# Altium footprint library QFP - Rectangle.PcbLib: 16 footprints
Each footprint in its own frame and in the unit in brackets; x right, y up, seen from the top. Pads: shape width x height; smd on the part's side, far side on the other; paste and mask are expansions set on the pad; w line width, h text height; cw(c..) or ccw(c..) is an arc to the next point about the centre after c.
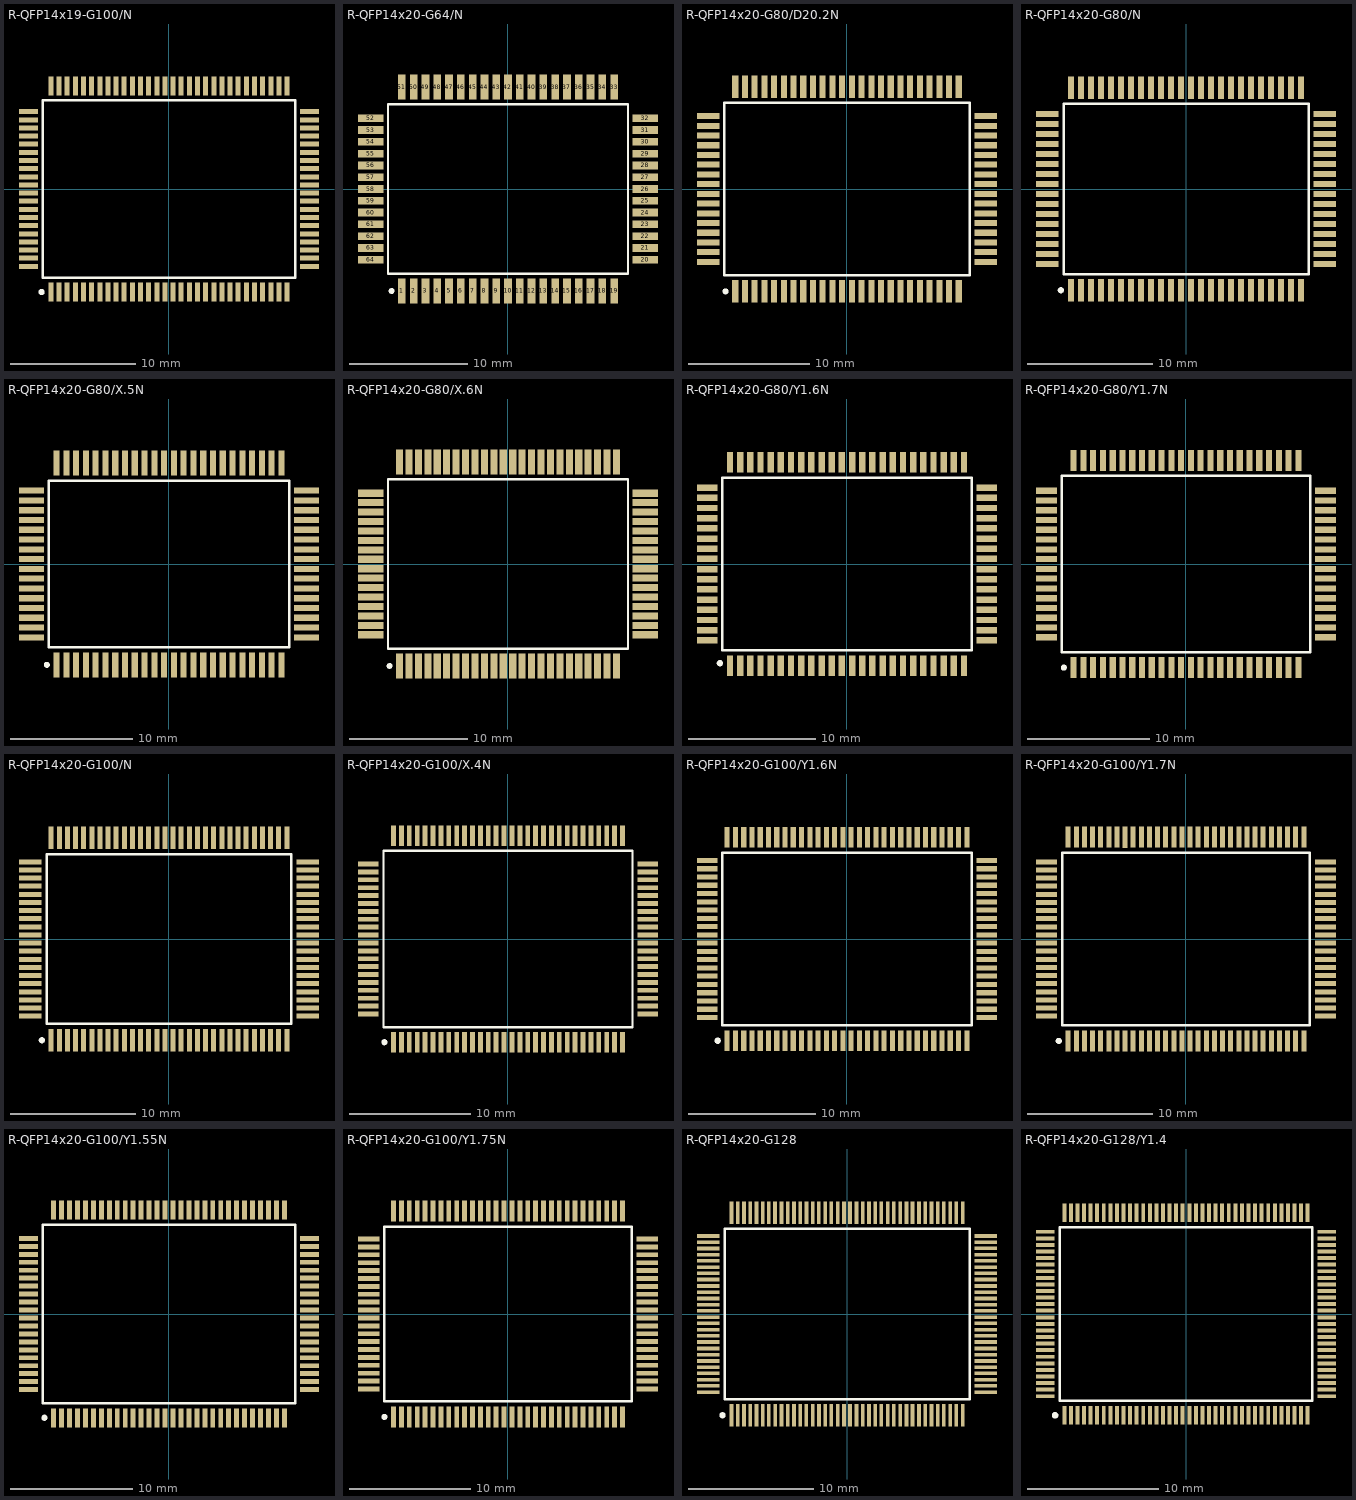
[diagram p0: the footprints below, top view; thin cyan lines are the x and y axes]

## R-QFP14x19-G100/N [mm] "100-Pin Ceramic Quad Flat Pack (CFQP)"
height 3.22
pads (100):
  rect 0.4x1.5 smd: 1(-9.425,-8.225) 2(-8.775,-8.225) 3(-8.125,-8.225) 4(-7.475,-8.225) 5(-6.825,-8.225) 6(-6.175,-8.225) 7(-5.525,-8.225) 8(-4.875,-8.225) 9(-4.225,-8.225) 10(-3.575,-8.225) 11(-2.925,-8.225) 12(-2.275,-8.225) 13(-1.625,-8.225) 14(-0.975,-8.225) 15(-0.325,-8.225) 16(0.325,-8.225) 17(0.975,-8.225) 18(1.625,-8.225) 19(2.275,-8.225) 20(2.925,-8.225) 21(3.575,-8.225) 22(4.225,-8.225) 23(4.875,-8.225) 24(5.525,-8.225) 25(6.175,-8.225) 26(6.825,-8.225) 27(7.475,-8.225) 28(8.125,-8.225) 29(8.775,-8.225) 30(9.425,-8.225) 51(9.425,8.225) 52(8.775,8.225) 53(8.125,8.225) 54(7.475,8.225) 55(6.825,8.225) 56(6.175,8.225) 57(5.525,8.225) 58(4.875,8.225) 59(4.225,8.225) 60(3.575,8.225) 61(2.925,8.225) 62(2.275,8.225) 63(1.625,8.225) 64(0.975,8.225) 65(0.325,8.225) 66(-0.325,8.225) 67(-0.975,8.225) 68(-1.625,8.225) 69(-2.275,8.225) 70(-2.925,8.225) 71(-3.575,8.225) 72(-4.225,8.225) 73(-4.875,8.225) 74(-5.525,8.225) 75(-6.175,8.225) 76(-6.825,8.225) 77(-7.475,8.225) 78(-8.125,8.225) 79(-8.775,8.225) 80(-9.425,8.225)
  rect 1.5x0.4 smd: 31(11.225,-6.175) 32(11.225,-5.525) 33(11.225,-4.875) 34(11.225,-4.225) 35(11.225,-3.575) 36(11.225,-2.925) 37(11.225,-2.275) 38(11.225,-1.625) 39(11.225,-0.975) 40(11.225,-0.325) 41(11.225,0.325) 42(11.225,0.975) 43(11.225,1.625) 44(11.225,2.275) 45(11.225,2.925) 46(11.225,3.575) 47(11.225,4.225) 48(11.225,4.875) 49(11.225,5.525) 50(11.225,6.175) 81(-11.225,6.175) 82(-11.225,5.525) 83(-11.225,4.875) 84(-11.225,4.225) 85(-11.225,3.575) 86(-11.225,2.925) 87(-11.225,2.275) 88(-11.225,1.625) 89(-11.225,0.975) 90(-11.225,0.325) 91(-11.225,-0.325) 92(-11.225,-0.975) 93(-11.225,-1.625) 94(-11.225,-2.275) 95(-11.225,-2.925) 96(-11.225,-3.575) 97(-11.225,-4.225) 98(-11.225,-4.875) 99(-11.225,-5.525) 100(-11.225,-6.175)
Top Overlay:
  circle w0.25: c-10.175,-8.225 r0.125
  lines w0.2: -10.075,-7.075 10.075,-7.075 10.075,7.075 -10.075,7.075 -10.075,-7.075

## R-QFP14x20-G64/N [mm] "QFP; 64 Leads; Body 14 x 20 mm; Pitch 1 mm"
height 2.3
pads (64):
  rect 0.65x2.15 smd: 1(-9,-8.65) 2(-8,-8.65) 3(-7,-8.65) 4(-6,-8.65) 5(-5,-8.65) 6(-4,-8.65) 7(-3,-8.65) 8(-2,-8.65) 9(-1,-8.65) 10(0,-8.65) 11(1,-8.65) 12(2,-8.65) 13(3,-8.65) 14(4,-8.65) 15(5,-8.65) 16(6,-8.65) 17(7,-8.65) 18(8,-8.65) 19(9,-8.65) 33(9,8.65) 34(8,8.65) 35(7,8.65) 36(6,8.65) 37(5,8.65) 38(4,8.65) 39(3,8.65) 40(2,8.65) 41(1,8.65) 42(0,8.65) 43(-1,8.65) 44(-2,8.65) 45(-3,8.65) 46(-4,8.65) 47(-5,8.65) 48(-6,8.65) 49(-7,8.65) 50(-8,8.65) 51(-9,8.65)
  rect 2.15x0.65 smd: 20(11.65,-6) 21(11.65,-5) 22(11.65,-4) 23(11.65,-3) 24(11.65,-2) 25(11.65,-1) 26(11.65,0) 27(11.65,1) 28(11.65,2) 29(11.65,3) 30(11.65,4) 31(11.65,5) 32(11.65,6) 52(-11.65,6) 53(-11.65,5) 54(-11.65,4) 55(-11.65,3) 56(-11.65,2) 57(-11.65,1) 58(-11.65,0) 59(-11.65,-1) 60(-11.65,-2) 61(-11.65,-3) 62(-11.65,-4) 63(-11.65,-5) 64(-11.65,-6)
Top Overlay:
  circle w0.25: c-9.875,-8.65 r0.125
  lines w0.2: -10.175,-7.175 -10.175,7.175 10.175,7.175 10.175,-7.175 -10.175,-7.175

## R-QFP14x20-G80/D20.2N [mm] "QFP; 80 Leads; Body 14 x 20 mm; Pitch 0.8 mm"
height 3.05
pads (80):
  rect 0.5x1.85 smd: 1(-9.2,-8.425) 2(-8.4,-8.425) 3(-7.6,-8.425) 4(-6.8,-8.425) 5(-6,-8.425) 6(-5.2,-8.425) 7(-4.4,-8.425) 8(-3.6,-8.425) 9(-2.8,-8.425) 10(-2,-8.425) 11(-1.2,-8.425) 12(-0.4,-8.425) 13(0.4,-8.425) 14(1.2,-8.425) 15(2,-8.425) 16(2.8,-8.425) 17(3.6,-8.425) 18(4.4,-8.425) 19(5.2,-8.425) 20(6,-8.425) 21(6.8,-8.425) 22(7.6,-8.425) 23(8.4,-8.425) 24(9.2,-8.425) 41(9.2,8.425) 42(8.4,8.425) 43(7.6,8.425) 44(6.8,8.425) 45(6,8.425) 46(5.2,8.425) 47(4.4,8.425) 48(3.6,8.425) 49(2.8,8.425) 50(2,8.425) 51(1.2,8.425) 52(0.4,8.425) 53(-0.4,8.425) 54(-1.2,8.425) 55(-2,8.425) 56(-2.8,8.425) 57(-3.6,8.425) 58(-4.4,8.425) 59(-5.2,8.425) 60(-6,8.425) 61(-6.8,8.425) 62(-7.6,8.425) 63(-8.4,8.425) 64(-9.2,8.425)
  rect 1.85x0.5 smd: 25(11.425,-6) 26(11.425,-5.2) 27(11.425,-4.4) 28(11.425,-3.6) 29(11.425,-2.8) 30(11.425,-2) 31(11.425,-1.2) 32(11.425,-0.4) 33(11.425,0.4) 34(11.425,1.2) 35(11.425,2) 36(11.425,2.8) 37(11.425,3.6) 38(11.425,4.4) 39(11.425,5.2) 40(11.425,6) 65(-11.425,6) 66(-11.425,5.2) 67(-11.425,4.4) 68(-11.425,3.6) 69(-11.425,2.8) 70(-11.425,2) 71(-11.425,1.2) 72(-11.425,0.4) 73(-11.425,-0.4) 74(-11.425,-1.2) 75(-11.425,-2) 76(-11.425,-2.8) 77(-11.425,-3.6) 78(-11.425,-4.4) 79(-11.425,-5.2) 80(-11.425,-6)
Top Overlay:
  circle w0.25: c-10,-8.425 r0.125
  lines w0.2: -10.1,-7.1 -10.1,7.1 10.1,7.1 10.1,-7.1 -10.1,-7.1

## R-QFP14x20-G80/N [mm] "QFP; 80 Leads; Body 14 x 20 mm; Pitch 0.8 mm"
height 2.45
pads (80):
  rect 0.5x1.8 smd: 1(-9.2,-8.1) 2(-8.4,-8.1) 3(-7.6,-8.1) 4(-6.8,-8.1) 5(-6,-8.1) 6(-5.2,-8.1) 7(-4.4,-8.1) 8(-3.6,-8.1) 9(-2.8,-8.1) 10(-2,-8.1) 11(-1.2,-8.1) 12(-0.4,-8.1) 13(0.4,-8.1) 14(1.2,-8.1) 15(2,-8.1) 16(2.8,-8.1) 17(3.6,-8.1) 18(4.4,-8.1) 19(5.2,-8.1) 20(6,-8.1) 21(6.8,-8.1) 22(7.6,-8.1) 23(8.4,-8.1) 24(9.2,-8.1) 41(9.2,8.1) 42(8.4,8.1) 43(7.6,8.1) 44(6.8,8.1) 45(6,8.1) 46(5.2,8.1) 47(4.4,8.1) 48(3.6,8.1) 49(2.8,8.1) 50(2,8.1) 51(1.2,8.1) 52(0.4,8.1) 53(-0.4,8.1) 54(-1.2,8.1) 55(-2,8.1) 56(-2.8,8.1) 57(-3.6,8.1) 58(-4.4,8.1) 59(-5.2,8.1) 60(-6,8.1) 61(-6.8,8.1) 62(-7.6,8.1) 63(-8.4,8.1) 64(-9.2,8.1)
  rect 1.8x0.5 smd: 25(11.1,-6) 26(11.1,-5.2) 27(11.1,-4.4) 28(11.1,-3.6) 29(11.1,-2.8) 30(11.1,-2) 31(11.1,-1.2) 32(11.1,-0.4) 33(11.1,0.4) 34(11.1,1.2) 35(11.1,2) 36(11.1,2.8) 37(11.1,3.6) 38(11.1,4.4) 39(11.1,5.2) 40(11.1,6) 65(-11.1,6) 66(-11.1,5.2) 67(-11.1,4.4) 68(-11.1,3.6) 69(-11.1,2.8) 70(-11.1,2) 71(-11.1,1.2) 72(-11.1,0.4) 73(-11.1,-0.4) 74(-11.1,-1.2) 75(-11.1,-2) 76(-11.1,-2.8) 77(-11.1,-3.6) 78(-11.1,-4.4) 79(-11.1,-5.2) 80(-11.1,-6)
Top Overlay:
  circle w0.25: c-10.012,-8.1 r0.125
  lines w0.2: -9.8,-6.8 -9.8,6.8 9.8,6.8 9.8,-6.8 -9.8,-6.8

## R-QFP14x20-G80/X.5N [mm] "QFP; 80 Leads; Body 14 x 20 mm; Pitch 0.8 mm"
height 3.15
pads (80):
  rect 0.5x2.05 smd: 1(-9.2,-8.25) 2(-8.4,-8.25) 3(-7.6,-8.25) 4(-6.8,-8.25) 5(-6,-8.25) 6(-5.2,-8.25) 7(-4.4,-8.25) 8(-3.6,-8.25) 9(-2.8,-8.25) 10(-2,-8.25) 11(-1.2,-8.25) 12(-0.4,-8.25) 13(0.4,-8.25) 14(1.2,-8.25) 15(2,-8.25) 16(2.8,-8.25) 17(3.6,-8.25) 18(4.4,-8.25) 19(5.2,-8.25) 20(6,-8.25) 21(6.8,-8.25) 22(7.6,-8.25) 23(8.4,-8.25) 24(9.2,-8.25) 41(9.2,8.25) 42(8.4,8.25) 43(7.6,8.25) 44(6.8,8.25) 45(6,8.25) 46(5.2,8.25) 47(4.4,8.25) 48(3.6,8.25) 49(2.8,8.25) 50(2,8.25) 51(1.2,8.25) 52(0.4,8.25) 53(-0.4,8.25) 54(-1.2,8.25) 55(-2,8.25) 56(-2.8,8.25) 57(-3.6,8.25) 58(-4.4,8.25) 59(-5.2,8.25) 60(-6,8.25) 61(-6.8,8.25) 62(-7.6,8.25) 63(-8.4,8.25) 64(-9.2,8.25)
  rect 2.05x0.5 smd: 25(11.25,-6) 26(11.25,-5.2) 27(11.25,-4.4) 28(11.25,-3.6) 29(11.25,-2.8) 30(11.25,-2) 31(11.25,-1.2) 32(11.25,-0.4) 33(11.25,0.4) 34(11.25,1.2) 35(11.25,2) 36(11.25,2.8) 37(11.25,3.6) 38(11.25,4.4) 39(11.25,5.2) 40(11.25,6) 65(-11.25,6) 66(-11.25,5.2) 67(-11.25,4.4) 68(-11.25,3.6) 69(-11.25,2.8) 70(-11.25,2) 71(-11.25,1.2) 72(-11.25,0.4) 73(-11.25,-0.4) 74(-11.25,-1.2) 75(-11.25,-2) 76(-11.25,-2.8) 77(-11.25,-3.6) 78(-11.25,-4.4) 79(-11.25,-5.2) 80(-11.25,-6)
Top Overlay:
  circle w0.25: c-10,-8.25 r0.125
  lines w0.2: -9.825,-6.825 9.825,-6.825 9.825,6.825 -9.825,6.825 -9.825,-6.825

## R-QFP14x20-G80/X.6N [mm] "QFP; 80 Leads; Body 14 x 20 mm; Pitch 0.8 mm"
height 2.3
pads (80):
  rect 0.6x2.15 smd: 1(-9.2,-8.65) 2(-8.4,-8.65) 3(-7.6,-8.65) 4(-6.8,-8.65) 5(-6,-8.65) 6(-5.2,-8.65) 7(-4.4,-8.65) 8(-3.6,-8.65) 9(-2.8,-8.65) 10(-2,-8.65) 11(-1.2,-8.65) 12(-0.4,-8.65) 13(0.4,-8.65) 14(1.2,-8.65) 15(2,-8.65) 16(2.8,-8.65) 17(3.6,-8.65) 18(4.4,-8.65) 19(5.2,-8.65) 20(6,-8.65) 21(6.8,-8.65) 22(7.6,-8.65) 23(8.4,-8.65) 24(9.2,-8.65) 41(9.2,8.65) 42(8.4,8.65) 43(7.6,8.65) 44(6.8,8.65) 45(6,8.65) 46(5.2,8.65) 47(4.4,8.65) 48(3.6,8.65) 49(2.8,8.65) 50(2,8.65) 51(1.2,8.65) 52(0.4,8.65) 53(-0.4,8.65) 54(-1.2,8.65) 55(-2,8.65) 56(-2.8,8.65) 57(-3.6,8.65) 58(-4.4,8.65) 59(-5.2,8.65) 60(-6,8.65) 61(-6.8,8.65) 62(-7.6,8.65) 63(-8.4,8.65) 64(-9.2,8.65)
  rect 2.15x0.6 smd: 25(11.65,-6) 26(11.65,-5.2) 27(11.65,-4.4) 28(11.65,-3.6) 29(11.65,-2.8) 30(11.65,-2) 31(11.65,-1.2) 32(11.65,-0.4) 33(11.65,0.4) 34(11.65,1.2) 35(11.65,2) 36(11.65,2.8) 37(11.65,3.6) 38(11.65,4.4) 39(11.65,5.2) 40(11.65,6) 65(-11.65,6) 66(-11.65,5.2) 67(-11.65,4.4) 68(-11.65,3.6) 69(-11.65,2.8) 70(-11.65,2) 71(-11.65,1.2) 72(-11.65,0.4) 73(-11.65,-0.4) 74(-11.65,-1.2) 75(-11.65,-2) 76(-11.65,-2.8) 77(-11.65,-3.6) 78(-11.65,-4.4) 79(-11.65,-5.2) 80(-11.65,-6)
Top Overlay:
  circle w0.25: c-10.05,-8.65 r0.125
  lines w0.2: -10.175,-7.175 -10.175,7.175 10.175,7.175 10.175,-7.175 -10.175,-7.175

## R-QFP14x20-G80/Y1.6N [mm] "QFP; 80 Leads; Body 14 x 20 mm; Pitch 0.8 mm"
height 3.05
pads (80):
  rect 0.5x1.6 smd: 1(-9.2,-8) 2(-8.4,-8) 3(-7.6,-8) 4(-6.8,-8) 5(-6,-8) 6(-5.2,-8) 7(-4.4,-8) 8(-3.6,-8) 9(-2.8,-8) 10(-2,-8) 11(-1.2,-8) 12(-0.4,-8) 13(0.4,-8) 14(1.2,-8) 15(2,-8) 16(2.8,-8) 17(3.6,-8) 18(4.4,-8) 19(5.2,-8) 20(6,-8) 21(6.8,-8) 22(7.6,-8) 23(8.4,-8) 24(9.2,-8) 41(9.2,8) 42(8.4,8) 43(7.6,8) 44(6.8,8) 45(6,8) 46(5.2,8) 47(4.4,8) 48(3.6,8) 49(2.8,8) 50(2,8) 51(1.2,8) 52(0.4,8) 53(-0.4,8) 54(-1.2,8) 55(-2,8) 56(-2.8,8) 57(-3.6,8) 58(-4.4,8) 59(-5.2,8) 60(-6,8) 61(-6.8,8) 62(-7.6,8) 63(-8.4,8) 64(-9.2,8)
  rect 1.6x0.5 smd: 25(11,-6) 26(11,-5.2) 27(11,-4.4) 28(11,-3.6) 29(11,-2.8) 30(11,-2) 31(11,-1.2) 32(11,-0.4) 33(11,0.4) 34(11,1.2) 35(11,2) 36(11,2.8) 37(11,3.6) 38(11,4.4) 39(11,5.2) 40(11,6) 65(-11,6) 66(-11,5.2) 67(-11,4.4) 68(-11,3.6) 69(-11,2.8) 70(-11,2) 71(-11,1.2) 72(-11,0.4) 73(-11,-0.4) 74(-11,-1.2) 75(-11,-2) 76(-11,-2.8) 77(-11,-3.6) 78(-11,-4.4) 79(-11,-5.2) 80(-11,-6)
Top Overlay:
  circle w0.25: c-10,-7.8 r0.125
  lines w0.2: -9.8,-6.8 9.8,-6.8 9.8,6.8 -9.8,6.8 -9.8,-6.8

## R-QFP14x20-G80/Y1.7N [mm] "QFP; 80 Leads; Body 14 x 20 mm; Pitch 0.8 mm"
height 3.25
pads (80):
  rect 0.5x1.7 smd: 1(-9.2,-8.48) 2(-8.4,-8.48) 3(-7.6,-8.48) 4(-6.8,-8.48) 5(-6,-8.48) 6(-5.2,-8.48) 7(-4.4,-8.48) 8(-3.6,-8.48) 9(-2.8,-8.48) 10(-2,-8.48) 11(-1.2,-8.48) 12(-0.4,-8.48) 13(0.4,-8.48) 14(1.2,-8.48) 15(2,-8.48) 16(2.8,-8.48) 17(3.6,-8.48) 18(4.4,-8.48) 19(5.2,-8.48) 20(6,-8.48) 21(6.8,-8.48) 22(7.6,-8.48) 23(8.4,-8.48) 24(9.2,-8.48) 41(9.2,8.48) 42(8.4,8.48) 43(7.6,8.48) 44(6.8,8.48) 45(6,8.48) 46(5.2,8.48) 47(4.4,8.48) 48(3.6,8.48) 49(2.8,8.48) 50(2,8.48) 51(1.2,8.48) 52(0.4,8.48) 53(-0.4,8.48) 54(-1.2,8.48) 55(-2,8.48) 56(-2.8,8.48) 57(-3.6,8.48) 58(-4.4,8.48) 59(-5.2,8.48) 60(-6,8.48) 61(-6.8,8.48) 62(-7.6,8.48) 63(-8.4,8.48) 64(-9.2,8.48)
  rect 1.7x0.5 smd: 25(11.43,-6) 26(11.43,-5.2) 27(11.43,-4.4) 28(11.43,-3.6) 29(11.43,-2.8) 30(11.43,-2) 31(11.43,-1.2) 32(11.43,-0.4) 33(11.43,0.4) 34(11.43,1.2) 35(11.43,2) 36(11.43,2.8) 37(11.43,3.6) 38(11.43,4.4) 39(11.43,5.2) 40(11.43,6) 65(-11.43,6) 66(-11.43,5.2) 67(-11.43,4.4) 68(-11.43,3.6) 69(-11.43,2.8) 70(-11.43,2) 71(-11.43,1.2) 72(-11.43,0.4) 73(-11.43,-0.4) 74(-11.43,-1.2) 75(-11.43,-2) 76(-11.43,-2.8) 77(-11.43,-3.6) 78(-11.43,-4.4) 79(-11.43,-5.2) 80(-11.43,-6)
Top Overlay:
  circle w0.25: c-10,-8.48 r0.125
  lines w0.2: -10.175,-7.225 10.175,-7.225 10.175,7.225 -10.175,7.225 -10.175,-7.225

## R-QFP14x20-G100/N [mm] "100-Pin Plastic Quad Flat Pack Rectangular Package (PQ100)"
height 3.4
pads (100):
  rect 0.4x1.8 smd: 1(-9.425,-8.105) 2(-8.775,-8.105) 3(-8.125,-8.105) 4(-7.475,-8.105) 5(-6.825,-8.105) 6(-6.175,-8.105) 7(-5.525,-8.105) 8(-4.875,-8.105) 9(-4.225,-8.105) 10(-3.575,-8.105) 11(-2.925,-8.105) 12(-2.275,-8.105) 13(-1.625,-8.105) 14(-0.975,-8.105) 15(-0.325,-8.105) 16(0.325,-8.105) 17(0.975,-8.105) 18(1.625,-8.105) 19(2.275,-8.105) 20(2.925,-8.105) 21(3.575,-8.105) 22(4.225,-8.105) 23(4.875,-8.105) 24(5.525,-8.105) 25(6.175,-8.105) 26(6.825,-8.105) 27(7.475,-8.105) 28(8.125,-8.105) 29(8.775,-8.105) 30(9.425,-8.105) 51(9.425,8.105) 52(8.775,8.105) 53(8.125,8.105) 54(7.475,8.105) 55(6.825,8.105) 56(6.175,8.105) 57(5.525,8.105) 58(4.875,8.105) 59(4.225,8.105) 60(3.575,8.105) 61(2.925,8.105) 62(2.275,8.105) 63(1.625,8.105) 64(0.975,8.105) 65(0.325,8.105) 66(-0.325,8.105) 67(-0.975,8.105) 68(-1.625,8.105) 69(-2.275,8.105) 70(-2.925,8.105) 71(-3.575,8.105) 72(-4.225,8.105) 73(-4.875,8.105) 74(-5.525,8.105) 75(-6.175,8.105) 76(-6.825,8.105) 77(-7.475,8.105) 78(-8.125,8.105) 79(-8.775,8.105) 80(-9.425,8.105)
  rect 1.8x0.4 smd: 31(11.105,-6.175) 32(11.105,-5.525) 33(11.105,-4.875) 34(11.105,-4.225) 35(11.105,-3.575) 36(11.105,-2.925) 37(11.105,-2.275) 38(11.105,-1.625) 39(11.105,-0.975) 40(11.105,-0.325) 41(11.105,0.325) 42(11.105,0.975) 43(11.105,1.625) 44(11.105,2.275) 45(11.105,2.925) 46(11.105,3.575) 47(11.105,4.225) 48(11.105,4.875) 49(11.105,5.525) 50(11.105,6.175) 81(-11.105,6.175) 82(-11.105,5.525) 83(-11.105,4.875) 84(-11.105,4.225) 85(-11.105,3.575) 86(-11.105,2.925) 87(-11.105,2.275) 88(-11.105,1.625) 89(-11.105,0.975) 90(-11.105,0.325) 91(-11.105,-0.325) 92(-11.105,-0.975) 93(-11.105,-1.625) 94(-11.105,-2.275) 95(-11.105,-2.925) 96(-11.105,-3.575) 97(-11.105,-4.225) 98(-11.105,-4.875) 99(-11.105,-5.525) 100(-11.105,-6.175)
Top Overlay:
  circle w0.25: c-10.175,-8.105 r0.125
  lines w0.2: -9.8,-6.8 9.8,-6.8 9.8,6.8 -9.8,6.8 -9.8,-6.8

## R-QFP14x20-G100/X.4N [mm] "QFP; 100 Leads; Body 14 x 20 mm; Pitch 0.65 mm"
height 3.3
pads (100):
  rect 0.4x1.7 smd: 1(-9.425,-8.5) 2(-8.775,-8.5) 3(-8.125,-8.5) 4(-7.475,-8.5) 5(-6.825,-8.5) 6(-6.175,-8.5) 7(-5.525,-8.5) 8(-4.875,-8.5) 9(-4.225,-8.5) 10(-3.575,-8.5) 11(-2.925,-8.5) 12(-2.275,-8.5) 13(-1.625,-8.5) 14(-0.975,-8.5) 15(-0.325,-8.5) 16(0.325,-8.5) 17(0.975,-8.5) 18(1.625,-8.5) 19(2.275,-8.5) 20(2.925,-8.5) 21(3.575,-8.5) 22(4.225,-8.5) 23(4.875,-8.5) 24(5.525,-8.5) 25(6.175,-8.5) 26(6.825,-8.5) 27(7.475,-8.5) 28(8.125,-8.5) 29(8.775,-8.5) 30(9.425,-8.5) 51(9.425,8.5) 52(8.775,8.5) 53(8.125,8.5) 54(7.475,8.5) 55(6.825,8.5) 56(6.175,8.5) 57(5.525,8.5) 58(4.875,8.5) 59(4.225,8.5) 60(3.575,8.5) 61(2.925,8.5) 62(2.275,8.5) 63(1.625,8.5) 64(0.975,8.5) 65(0.325,8.5) 66(-0.325,8.5) 67(-0.975,8.5) 68(-1.625,8.5) 69(-2.275,8.5) 70(-2.925,8.5) 71(-3.575,8.5) 72(-4.225,8.5) 73(-4.875,8.5) 74(-5.525,8.5) 75(-6.175,8.5) 76(-6.825,8.5) 77(-7.475,8.5) 78(-8.125,8.5) 79(-8.775,8.5) 80(-9.425,8.5)
  rect 1.7x0.4 smd: 31(11.5,-6.175) 32(11.5,-5.525) 33(11.5,-4.875) 34(11.5,-4.225) 35(11.5,-3.575) 36(11.5,-2.925) 37(11.5,-2.275) 38(11.5,-1.625) 39(11.5,-0.975) 40(11.5,-0.325) 41(11.5,0.325) 42(11.5,0.975) 43(11.5,1.625) 44(11.5,2.275) 45(11.5,2.925) 46(11.5,3.575) 47(11.5,4.225) 48(11.5,4.875) 49(11.5,5.525) 50(11.5,6.175) 81(-11.5,6.175) 82(-11.5,5.525) 83(-11.5,4.875) 84(-11.5,4.225) 85(-11.5,3.575) 86(-11.5,2.925) 87(-11.5,2.275) 88(-11.5,1.625) 89(-11.5,0.975) 90(-11.5,0.325) 91(-11.5,-0.325) 92(-11.5,-0.975) 93(-11.5,-1.625) 94(-11.5,-2.275) 95(-11.5,-2.925) 96(-11.5,-3.575) 97(-11.5,-4.225) 98(-11.5,-4.875) 99(-11.5,-5.525) 100(-11.5,-6.175)
Top Overlay:
  circle w0.25: c-10.175,-8.5 r0.125
  lines w0.2: -10.25,-7.25 10.25,-7.25 10.25,7.25 -10.25,7.25 -10.25,-7.25

## R-QFP14x20-G100/Y1.6N [mm] "QFP; 100 Leads; Body 14 x 20 mm; Pitch 0.65 mm"
height 3.05
pads (100):
  rect 0.4x1.6 smd: 1(-9.425,-8) 2(-8.775,-8) 3(-8.125,-8) 4(-7.475,-8) 5(-6.825,-8) 6(-6.175,-8) 7(-5.525,-8) 8(-4.875,-8) 9(-4.225,-8) 10(-3.575,-8) 11(-2.925,-8) 12(-2.275,-8) 13(-1.625,-8) 14(-0.975,-8) 15(-0.325,-8) 16(0.325,-8) 17(0.975,-8) 18(1.625,-8) 19(2.275,-8) 20(2.925,-8) 21(3.575,-8) 22(4.225,-8) 23(4.875,-8) 24(5.525,-8) 25(6.175,-8) 26(6.825,-8) 27(7.475,-8) 28(8.125,-8) 29(8.775,-8) 30(9.425,-8) 51(9.425,8) 52(8.775,8) 53(8.125,8) 54(7.475,8) 55(6.825,8) 56(6.175,8) 57(5.525,8) 58(4.875,8) 59(4.225,8) 60(3.575,8) 61(2.925,8) 62(2.275,8) 63(1.625,8) 64(0.975,8) 65(0.325,8) 66(-0.325,8) 67(-0.975,8) 68(-1.625,8) 69(-2.275,8) 70(-2.925,8) 71(-3.575,8) 72(-4.225,8) 73(-4.875,8) 74(-5.525,8) 75(-6.175,8) 76(-6.825,8) 77(-7.475,8) 78(-8.125,8) 79(-8.775,8) 80(-9.425,8)
  rect 1.6x0.4 smd: 31(11,-6.175) 32(11,-5.525) 33(11,-4.875) 34(11,-4.225) 35(11,-3.575) 36(11,-2.925) 37(11,-2.275) 38(11,-1.625) 39(11,-0.975) 40(11,-0.325) 41(11,0.325) 42(11,0.975) 43(11,1.625) 44(11,2.275) 45(11,2.925) 46(11,3.575) 47(11,4.225) 48(11,4.875) 49(11,5.525) 50(11,6.175) 81(-11,6.175) 82(-11,5.525) 83(-11,4.875) 84(-11,4.225) 85(-11,3.575) 86(-11,2.925) 87(-11,2.275) 88(-11,1.625) 89(-11,0.975) 90(-11,0.325) 91(-11,-0.325) 92(-11,-0.975) 93(-11,-1.625) 94(-11,-2.275) 95(-11,-2.925) 96(-11,-3.575) 97(-11,-4.225) 98(-11,-4.875) 99(-11,-5.525) 100(-11,-6.175)
Top Overlay:
  circle w0.25: c-10.175,-8 r0.125
  lines w0.2: -9.8,-6.8 -9.8,6.8 9.8,6.8 9.8,-6.8 -9.8,-6.8

## R-QFP14x20-G100/Y1.7N [mm] "100-Pin Plastic Quad Flat Pack (PFQP) Option 1"
height 3.65
pads (100):
  rect 0.4x1.7 smd: 1(-9.425,-8.15) 2(-8.775,-8.15) 3(-8.125,-8.15) 4(-7.475,-8.15) 5(-6.825,-8.15) 6(-6.175,-8.15) 7(-5.525,-8.15) 8(-4.875,-8.15) 9(-4.225,-8.15) 10(-3.575,-8.15) 11(-2.925,-8.15) 12(-2.275,-8.15) 13(-1.625,-8.15) 14(-0.975,-8.15) 15(-0.325,-8.15) 16(0.325,-8.15) 17(0.975,-8.15) 18(1.625,-8.15) 19(2.275,-8.15) 20(2.925,-8.15) 21(3.575,-8.15) 22(4.225,-8.15) 23(4.875,-8.15) 24(5.525,-8.15) 25(6.175,-8.15) 26(6.825,-8.15) 27(7.475,-8.15) 28(8.125,-8.15) 29(8.775,-8.15) 30(9.425,-8.15) 51(9.425,8.15) 52(8.775,8.15) 53(8.125,8.15) 54(7.475,8.15) 55(6.825,8.15) 56(6.175,8.15) 57(5.525,8.15) 58(4.875,8.15) 59(4.225,8.15) 60(3.575,8.15) 61(2.925,8.15) 62(2.275,8.15) 63(1.625,8.15) 64(0.975,8.15) 65(0.325,8.15) 66(-0.325,8.15) 67(-0.975,8.15) 68(-1.625,8.15) 69(-2.275,8.15) 70(-2.925,8.15) 71(-3.575,8.15) 72(-4.225,8.15) 73(-4.875,8.15) 74(-5.525,8.15) 75(-6.175,8.15) 76(-6.825,8.15) 77(-7.475,8.15) 78(-8.125,8.15) 79(-8.775,8.15) 80(-9.425,8.15)
  rect 1.7x0.4 smd: 31(11.15,-6.175) 32(11.15,-5.525) 33(11.15,-4.875) 34(11.15,-4.225) 35(11.15,-3.575) 36(11.15,-2.925) 37(11.15,-2.275) 38(11.15,-1.625) 39(11.15,-0.975) 40(11.15,-0.325) 41(11.15,0.325) 42(11.15,0.975) 43(11.15,1.625) 44(11.15,2.275) 45(11.15,2.925) 46(11.15,3.575) 47(11.15,4.225) 48(11.15,4.875) 49(11.15,5.525) 50(11.15,6.175) 81(-11.15,6.175) 82(-11.15,5.525) 83(-11.15,4.875) 84(-11.15,4.225) 85(-11.15,3.575) 86(-11.15,2.925) 87(-11.15,2.275) 88(-11.15,1.625) 89(-11.15,0.975) 90(-11.15,0.325) 91(-11.15,-0.325) 92(-11.15,-0.975) 93(-11.15,-1.625) 94(-11.15,-2.275) 95(-11.15,-2.925) 96(-11.15,-3.575) 97(-11.15,-4.225) 98(-11.15,-4.875) 99(-11.15,-5.525) 100(-11.15,-6.175)
Top Overlay:
  circle w0.25: c-10.175,-8.15 r0.125
  lines w0.2: -9.9,-6.9 9.9,-6.9 9.9,6.9 -9.9,6.9 -9.9,-6.9

## R-QFP14x20-G100/Y1.55N [mm] "QFP; 100 Leads; Body 14 x 20 mm; Pitch 0.65 mm"
height 3.27
pads (100):
  rect 0.4x1.55 smd: 1(-9.425,-8.475) 2(-8.775,-8.475) 3(-8.125,-8.475) 4(-7.475,-8.475) 5(-6.825,-8.475) 6(-6.175,-8.475) 7(-5.525,-8.475) 8(-4.875,-8.475) 9(-4.225,-8.475) 10(-3.575,-8.475) 11(-2.925,-8.475) 12(-2.275,-8.475) 13(-1.625,-8.475) 14(-0.975,-8.475) 15(-0.325,-8.475) 16(0.325,-8.475) 17(0.975,-8.475) 18(1.625,-8.475) 19(2.275,-8.475) 20(2.925,-8.475) 21(3.575,-8.475) 22(4.225,-8.475) 23(4.875,-8.475) 24(5.525,-8.475) 25(6.175,-8.475) 26(6.825,-8.475) 27(7.475,-8.475) 28(8.125,-8.475) 29(8.775,-8.475) 30(9.425,-8.475) 51(9.425,8.475) 52(8.775,8.475) 53(8.125,8.475) 54(7.475,8.475) 55(6.825,8.475) 56(6.175,8.475) 57(5.525,8.475) 58(4.875,8.475) 59(4.225,8.475) 60(3.575,8.475) 61(2.925,8.475) 62(2.275,8.475) 63(1.625,8.475) 64(0.975,8.475) 65(0.325,8.475) 66(-0.325,8.475) 67(-0.975,8.475) 68(-1.625,8.475) 69(-2.275,8.475) 70(-2.925,8.475) 71(-3.575,8.475) 72(-4.225,8.475) 73(-4.875,8.475) 74(-5.525,8.475) 75(-6.175,8.475) 76(-6.825,8.475) 77(-7.475,8.475) 78(-8.125,8.475) 79(-8.775,8.475) 80(-9.425,8.475)
  rect 1.55x0.4 smd: 31(11.475,-6.175) 32(11.475,-5.525) 33(11.475,-4.875) 34(11.475,-4.225) 35(11.475,-3.575) 36(11.475,-2.925) 37(11.475,-2.275) 38(11.475,-1.625) 39(11.475,-0.975) 40(11.475,-0.325) 41(11.475,0.325) 42(11.475,0.975) 43(11.475,1.625) 44(11.475,2.275) 45(11.475,2.925) 46(11.475,3.575) 47(11.475,4.225) 48(11.475,4.875) 49(11.475,5.525) 50(11.475,6.175) 81(-11.475,6.175) 82(-11.475,5.525) 83(-11.475,4.875) 84(-11.475,4.225) 85(-11.475,3.575) 86(-11.475,2.925) 87(-11.475,2.275) 88(-11.475,1.625) 89(-11.475,0.975) 90(-11.475,0.325) 91(-11.475,-0.325) 92(-11.475,-0.975) 93(-11.475,-1.625) 94(-11.475,-2.275) 95(-11.475,-2.925) 96(-11.475,-3.575) 97(-11.475,-4.225) 98(-11.475,-4.875) 99(-11.475,-5.525) 100(-11.475,-6.175)
Top Overlay:
  circle w0.25: c-10.175,-8.475 r0.125
  lines w0.2: -10.3,-7.3 -10.3,7.3 10.3,7.3 10.3,-7.3 -10.3,-7.3

## R-QFP14x20-G100/Y1.75N [mm] "QFP; 100 Leads; Body 14 x 20 mm; Pitch 0.65 mm"
height 3
pads (100):
  rect 0.4x1.75 smd: 1(-9.425,-8.475) 2(-8.775,-8.475) 3(-8.125,-8.475) 4(-7.475,-8.475) 5(-6.825,-8.475) 6(-6.175,-8.475) 7(-5.525,-8.475) 8(-4.875,-8.475) 9(-4.225,-8.475) 10(-3.575,-8.475) 11(-2.925,-8.475) 12(-2.275,-8.475) 13(-1.625,-8.475) 14(-0.975,-8.475) 15(-0.325,-8.475) 16(0.325,-8.475) 17(0.975,-8.475) 18(1.625,-8.475) 19(2.275,-8.475) 20(2.925,-8.475) 21(3.575,-8.475) 22(4.225,-8.475) 23(4.875,-8.475) 24(5.525,-8.475) 25(6.175,-8.475) 26(6.825,-8.475) 27(7.475,-8.475) 28(8.125,-8.475) 29(8.775,-8.475) 30(9.425,-8.475) 51(9.425,8.475) 52(8.775,8.475) 53(8.125,8.475) 54(7.475,8.475) 55(6.825,8.475) 56(6.175,8.475) 57(5.525,8.475) 58(4.875,8.475) 59(4.225,8.475) 60(3.575,8.475) 61(2.925,8.475) 62(2.275,8.475) 63(1.625,8.475) 64(0.975,8.475) 65(0.325,8.475) 66(-0.325,8.475) 67(-0.975,8.475) 68(-1.625,8.475) 69(-2.275,8.475) 70(-2.925,8.475) 71(-3.575,8.475) 72(-4.225,8.475) 73(-4.875,8.475) 74(-5.525,8.475) 75(-6.175,8.475) 76(-6.825,8.475) 77(-7.475,8.475) 78(-8.125,8.475) 79(-8.775,8.475) 80(-9.425,8.475)
  rect 1.75x0.4 smd: 31(11.475,-6.175) 32(11.475,-5.525) 33(11.475,-4.875) 34(11.475,-4.225) 35(11.475,-3.575) 36(11.475,-2.925) 37(11.475,-2.275) 38(11.475,-1.625) 39(11.475,-0.975) 40(11.475,-0.325) 41(11.475,0.325) 42(11.475,0.975) 43(11.475,1.625) 44(11.475,2.275) 45(11.475,2.925) 46(11.475,3.575) 47(11.475,4.225) 48(11.475,4.875) 49(11.475,5.525) 50(11.475,6.175) 81(-11.475,6.175) 82(-11.475,5.525) 83(-11.475,4.875) 84(-11.475,4.225) 85(-11.475,3.575) 86(-11.475,2.925) 87(-11.475,2.275) 88(-11.475,1.625) 89(-11.475,0.975) 90(-11.475,0.325) 91(-11.475,-0.325) 92(-11.475,-0.975) 93(-11.475,-1.625) 94(-11.475,-2.275) 95(-11.475,-2.925) 96(-11.475,-3.575) 97(-11.475,-4.225) 98(-11.475,-4.875) 99(-11.475,-5.525) 100(-11.475,-6.175)
Top Overlay:
  circle w0.25: c-10.175,-8.475 r0.125
  lines w0.2: -10.2,-7.2 -10.2,7.2 10.2,7.2 10.2,-7.2 -10.2,-7.2

## R-QFP14x20-G128 [mm] "QFP, Plastic; 128 Leads; Body 14 x 20 mm; Pitch 0.5 mm"
height 3.4
pads (128):
  rect 0.3x1.8 smd: 1(-9.25,-8.1) 2(-8.75,-8.1) 3(-8.25,-8.1) 4(-7.75,-8.1) 5(-7.25,-8.1) 6(-6.75,-8.1) 7(-6.25,-8.1) 8(-5.75,-8.1) 9(-5.25,-8.1) 10(-4.75,-8.1) 11(-4.25,-8.1) 12(-3.75,-8.1) 13(-3.25,-8.1) 14(-2.75,-8.1) 15(-2.25,-8.1) 16(-1.75,-8.1) 17(-1.25,-8.1) 18(-0.75,-8.1) 19(-0.25,-8.1) 20(0.25,-8.1) 21(0.75,-8.1) 22(1.25,-8.1) 23(1.75,-8.1) 24(2.25,-8.1) 25(2.75,-8.1) 26(3.25,-8.1) 27(3.75,-8.1) 28(4.25,-8.1) 29(4.75,-8.1) 30(5.25,-8.1) 31(5.75,-8.1) 32(6.25,-8.1) 33(6.75,-8.1) 34(7.25,-8.1) 35(7.75,-8.1) 36(8.25,-8.1) 37(8.75,-8.1) 38(9.25,-8.1) 65(9.25,8.1) 66(8.75,8.1) 67(8.25,8.1) 68(7.75,8.1) 69(7.25,8.1) 70(6.75,8.1) 71(6.25,8.1) 72(5.75,8.1) 73(5.25,8.1) 74(4.75,8.1) 75(4.25,8.1) 76(3.75,8.1) 77(3.25,8.1) 78(2.75,8.1) 79(2.25,8.1) 80(1.75,8.1) 81(1.25,8.1) 82(0.75,8.1) 83(0.25,8.1) 84(-0.25,8.1) 85(-0.75,8.1) 86(-1.25,8.1) 87(-1.75,8.1) 88(-2.25,8.1) 89(-2.75,8.1) 90(-3.25,8.1) 91(-3.75,8.1) 92(-4.25,8.1) 93(-4.75,8.1) 94(-5.25,8.1) 95(-5.75,8.1) 96(-6.25,8.1) 97(-6.75,8.1) 98(-7.25,8.1) 99(-7.75,8.1) 100(-8.25,8.1) 101(-8.75,8.1) 102(-9.25,8.1)
  rect 1.8x0.3 smd: 39(11.1,-6.25) 40(11.1,-5.75) 41(11.1,-5.25) 42(11.1,-4.75) 43(11.1,-4.25) 44(11.1,-3.75) 45(11.1,-3.25) 46(11.1,-2.75) 47(11.1,-2.25) 48(11.1,-1.75) 49(11.1,-1.25) 50(11.1,-0.75) 51(11.1,-0.25) 52(11.1,0.25) 53(11.1,0.75) 54(11.1,1.25) 55(11.1,1.75) 56(11.1,2.25) 57(11.1,2.75) 58(11.1,3.25) 59(11.1,3.75) 60(11.1,4.25) 61(11.1,4.75) 62(11.1,5.25) 63(11.1,5.75) 64(11.1,6.25) 103(-11.1,6.25) 104(-11.1,5.75) 105(-11.1,5.25) 106(-11.1,4.75) 107(-11.1,4.25) 108(-11.1,3.75) 109(-11.1,3.25) 110(-11.1,2.75) 111(-11.1,2.25) 112(-11.1,1.75) 113(-11.1,1.25) 114(-11.1,0.75) 115(-11.1,0.25) 116(-11.1,-0.25) 117(-11.1,-0.75) 118(-11.1,-1.25) 119(-11.1,-1.75) 120(-11.1,-2.25) 121(-11.1,-2.75) 122(-11.1,-3.25) 123(-11.1,-3.75) 124(-11.1,-4.25) 125(-11.1,-4.75) 126(-11.1,-5.25) 127(-11.1,-5.75) 128(-11.1,-6.25)
Top Overlay:
  circle w0.25: c-9.962,-8.1 r0.125
  lines w0.2: -9.8,-6.8 9.8,-6.8 9.8,6.8 -9.8,6.8 -9.8,-6.8

## R-QFP14x20-G128/Y1.4 [mm] "QFP; 128 Leads; Body 14 x 20 mm; Pitch 0.5 mm"
height 1.7
pads (128):
  rect 0.3x1.4 smd: 1(-9.25,-7.7) 2(-8.75,-7.7) 3(-8.25,-7.7) 4(-7.75,-7.7) 5(-7.25,-7.7) 6(-6.75,-7.7) 7(-6.25,-7.7) 8(-5.75,-7.7) 9(-5.25,-7.7) 10(-4.75,-7.7) 11(-4.25,-7.7) 12(-3.75,-7.7) 13(-3.25,-7.7) 14(-2.75,-7.7) 15(-2.25,-7.7) 16(-1.75,-7.7) 17(-1.25,-7.7) 18(-0.75,-7.7) 19(-0.25,-7.7) 20(0.25,-7.7) 21(0.75,-7.7) 22(1.25,-7.7) 23(1.75,-7.7) 24(2.25,-7.7) 25(2.75,-7.7) 26(3.25,-7.7) 27(3.75,-7.7) 28(4.25,-7.7) 29(4.75,-7.7) 30(5.25,-7.7) 31(5.75,-7.7) 32(6.25,-7.7) 33(6.75,-7.7) 34(7.25,-7.7) 35(7.75,-7.7) 36(8.25,-7.7) 37(8.75,-7.7) 38(9.25,-7.7) 65(9.25,7.7) 66(8.75,7.7) 67(8.25,7.7) 68(7.75,7.7) 69(7.25,7.7) 70(6.75,7.7) 71(6.25,7.7) 72(5.75,7.7) 73(5.25,7.7) 74(4.75,7.7) 75(4.25,7.7) 76(3.75,7.7) 77(3.25,7.7) 78(2.75,7.7) 79(2.25,7.7) 80(1.75,7.7) 81(1.25,7.7) 82(0.75,7.7) 83(0.25,7.7) 84(-0.25,7.7) 85(-0.75,7.7) 86(-1.25,7.7) 87(-1.75,7.7) 88(-2.25,7.7) 89(-2.75,7.7) 90(-3.25,7.7) 91(-3.75,7.7) 92(-4.25,7.7) 93(-4.75,7.7) 94(-5.25,7.7) 95(-5.75,7.7) 96(-6.25,7.7) 97(-6.75,7.7) 98(-7.25,7.7) 99(-7.75,7.7) 100(-8.25,7.7) 101(-8.75,7.7) 102(-9.25,7.7)
  rect 1.4x0.3 smd: 39(10.7,-6.25) 40(10.7,-5.75) 41(10.7,-5.25) 42(10.7,-4.75) 43(10.7,-4.25) 44(10.7,-3.75) 45(10.7,-3.25) 46(10.7,-2.75) 47(10.7,-2.25) 48(10.7,-1.75) 49(10.7,-1.25) 50(10.7,-0.75) 51(10.7,-0.25) 52(10.7,0.25) 53(10.7,0.75) 54(10.7,1.25) 55(10.7,1.75) 56(10.7,2.25) 57(10.7,2.75) 58(10.7,3.25) 59(10.7,3.75) 60(10.7,4.25) 61(10.7,4.75) 62(10.7,5.25) 63(10.7,5.75) 64(10.7,6.25) 103(-10.7,6.25) 104(-10.7,5.75) 105(-10.7,5.25) 106(-10.7,4.75) 107(-10.7,4.25) 108(-10.7,3.75) 109(-10.7,3.25) 110(-10.7,2.75) 111(-10.7,2.25) 112(-10.7,1.75) 113(-10.7,1.25) 114(-10.7,0.75) 115(-10.7,0.25) 116(-10.7,-0.25) 117(-10.7,-0.75) 118(-10.7,-1.25) 119(-10.7,-1.75) 120(-10.7,-2.25) 121(-10.7,-2.75) 122(-10.7,-3.25) 123(-10.7,-3.75) 124(-10.7,-4.25) 125(-10.7,-4.75) 126(-10.7,-5.25) 127(-10.7,-5.75) 128(-10.7,-6.25)
Top Overlay:
  circle w0.25: c-9.95,-7.7 r0.125
  lines w0.2: -9.6,-6.6 9.6,-6.6 9.6,6.6 -9.6,6.6 -9.6,-6.6